# Altium footprint library Pcb_Lib1.PcbLib: 7 footprints
Each footprint in its own frame and in the unit in brackets; x right, y up, seen from the top. Pads: shape width x height; smd on the part's side, far side on the other; paste and mask are expansions set on the pad; w line width, h text height; cw(c..) or ccw(c..) is an arc to the next point about the centre after c.
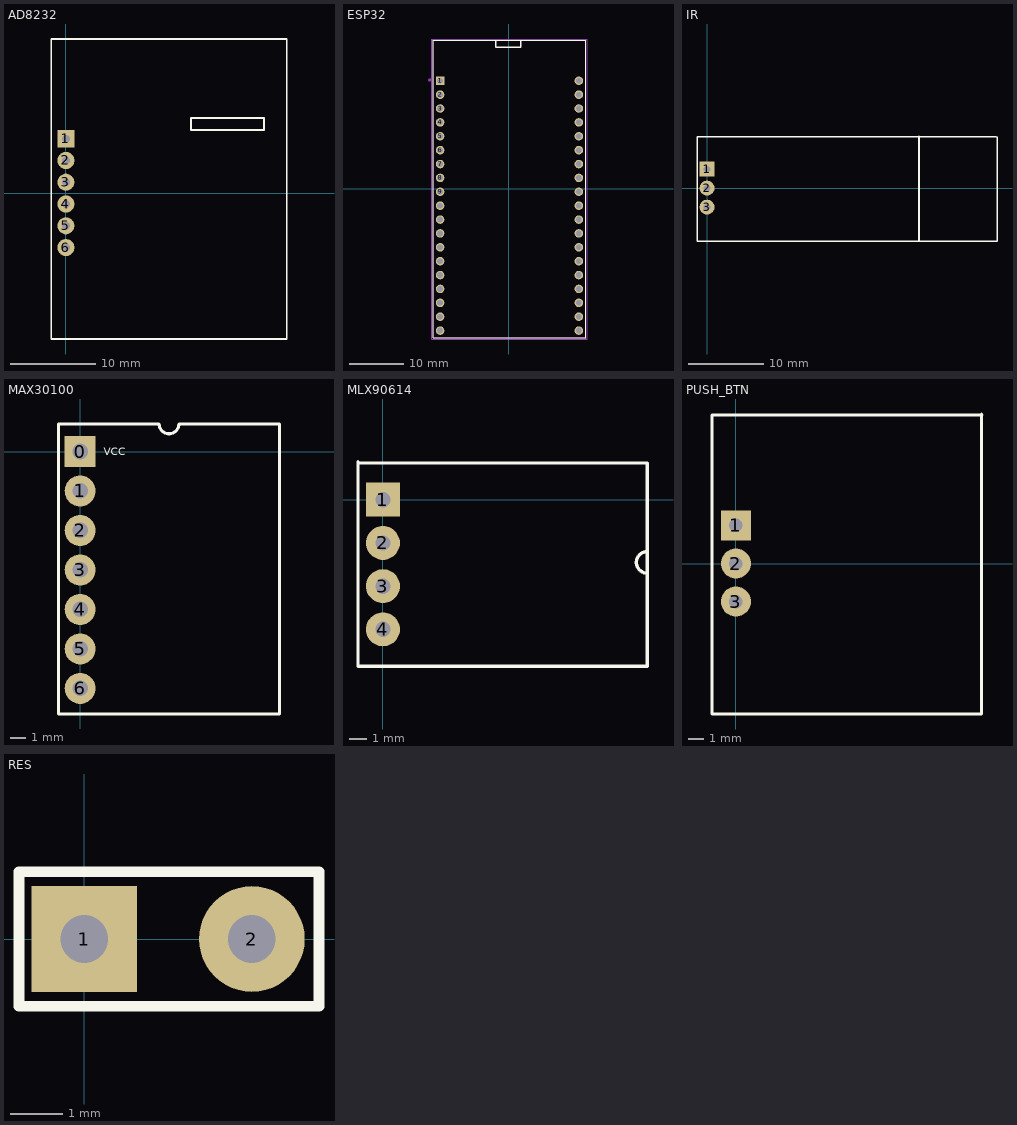
[diagram p0: the footprints below, top view; thin cyan lines are the x and y axes]

## AD8232 [mm]
pads (6):
  rect 2x2 hole 0.9: 1(0,6.35)
  round 2 hole 0.9: 2(0,3.81) 3(0,1.27) 4(0,-1.27) 5(0,-3.81) 6(0,-6.35)
Top Overlay:
  lines w0.2: -1.721,-17.018 -1.721,17.982 25.779,17.982 25.779,-17.018 -1.721,-17.018
  lines w0.254: 14.605,7.366 23.114,7.366 23.114,8.763 14.605,8.763 14.605,7.366

## ESP32 [mm]
pads (38):
  rect 1.56x1.56 hole 1.04: 1(-12.573,19.76)
  round 1.56 hole 1.04: 2(-12.573,17.22) 3(-12.573,14.68) 4(-12.573,12.14) 5(-12.573,9.6) 6(-12.573,7.06) 7(-12.573,4.52) 8(-12.573,1.98) 9(-12.573,-0.56) 10(-12.573,-3.1) 11(-12.573,-5.64) 12(-12.573,-8.18) 13(-12.573,-10.72) 14(-12.573,-13.26) 15(-12.573,-15.8) 16(-12.573,-18.34) 17(-12.573,-20.88) 18(-12.573,-23.42) 19(-12.573,-25.96) 20(12.827,19.76) 21(12.827,17.22) 22(12.827,14.68) 23(12.827,12.14) 24(12.827,9.6) 25(12.827,7.06) 26(12.827,4.52) 27(12.827,1.98) 28(12.827,-0.56) 29(12.827,-3.1) 30(12.827,-5.64) 31(12.827,-8.18) 32(12.827,-10.72) 33(12.827,-13.26) 34(12.827,-15.8) 35(12.827,-18.34) 36(12.827,-20.88) 37(12.827,-23.42) 38(12.827,-25.96)
Top Overlay:
  lines w0.127: -13.823,-27.25 14.077,-27.25 14.077,27.15 -13.823,27.15 -13.823,-27.25
  lines w0.254: -2.413,25.88 2.159,25.88 2.159,27.023 ; -2.413,25.908 -2.413,27.023
Mechanical 13:
  circle w0.28: c-14.473,19.9 r0.14
  lines w0.127: -13.823,-27.25 -13.823,27.15 14.077,27.15 14.077,-27.25 -13.823,-27.25
Mechanical 15:
  lines w0.05: -14.073,-27.5 -14.073,27.4 14.327,27.4 14.327,-27.5 -14.073,-27.5

## IR [mm]
pads (3):
  rect 2x2 hole 0.9: 1(0,2.54)
  round 2 hole 0.9: 2(0,0) 3(0,-2.54)
Top Overlay:
  lines w0.2: 38.66,6.888 -1.34,6.888 -1.34,-7.112 38.735,-7.112 38.735,6.888
  lines w0.254: 28.321,-6.985 28.321,1.143 28.321,6.888

## MAX30100 [mm]
pads (7):
  rect 2x2 hole 1: 0(0,0)
  round 2 hole 1: 1(0,-2.54) 2(0,-5.08) 3(0,-7.62) 4(0,-10.16) 5(0,-12.7) 6(0,-15.24)
Top Overlay:
  lines w0.2: -1.397,-16.891 -1.397,1.778 5.08,1.778 ccw(c5.715,1.778) 6.35,1.778 12.827,1.778 12.827,-16.891 -1.397,-16.891
  text "VCC" at 1.524,-0.254 h0.5

## MLX90614 [mm]
pads (4):
  rect 2x2 hole 0.9: 1(0,0)
  round 2 hole 0.9: 2(0,-2.54) 3(0,-5.08) 4(0,-7.62)
Top Overlay:
  lines w0.2: -1.467,2.159 15.533,2.159 15.533,-9.779 -1.467,-9.779 -1.467,2.221 ; 15.533,-4.318 cw(c15.533,-3.683) 15.533,-3.048

## PUSH_BTN [mm]
pads (3):
  rect 2x2 hole 0.9: 1(0,2.54)
  round 2 hole 0.9: 2(0,0) 3(0,-2.54)
Top Overlay:
  lines w0.2: 16.383,9.967 16.383,-10.033 -1.594,-10.033 -1.594,9.906 16.406,9.906

## RES [mm]
pads (2):
  rect 2x2 hole 0.9: 1(0,0)
  round 2 hole 0.9: 2(3.175,0)
Top Overlay:
  lines w0.2: -1.235,-1.27 4.445,-1.27 4.445,1.27 -1.235,1.27 -1.235,-1.27